# Altium schematic symbol library SSW-115-01-G-D.SchLib: 1 symbol
Pins are listed as number, name and electrical type; pins without a type are passive.

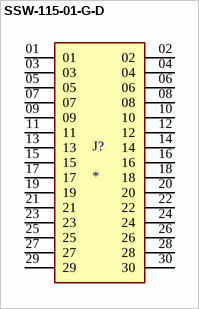
[diagram p0: symbol SSW-115-01-G-D]

## SSW-115-01-G-D
designator J?
SSW - Samtec 2.54mm Dual Row Straight Socket Strip 8.5mm Profile - Fast Stock; MP: SSW-115-01-G-D; Check_prices: https://www.snapeda.com/parts/SSW-115-01-G-D/Samtec/view-part/2779813/?ref=eda; Package: None; Price: None; Availability: Good; Purchase-URL: https://pricing.snapeda.com/search/part/SSW-115-01-G-D/?ref=eda; MF: Samtec; SnapEDA_Link: https://www.snapeda.com/parts/SSW-115-01-G-D/Samtec/view-part/2779813/?ref=snap; Value: *
footprint SAMTEC_SSW-115-01-G-D
pins: 01, 02, 03, 04, 05, 06, 07, 08, 09, 10, 11, 12, 13, 14, 15, 16, 17, 18, 19, 20, 21, 22, 23, 24, 25, 26, 27, 28, 29, 30